# EAGLE library part RJ45_PULSE (library kwoo)
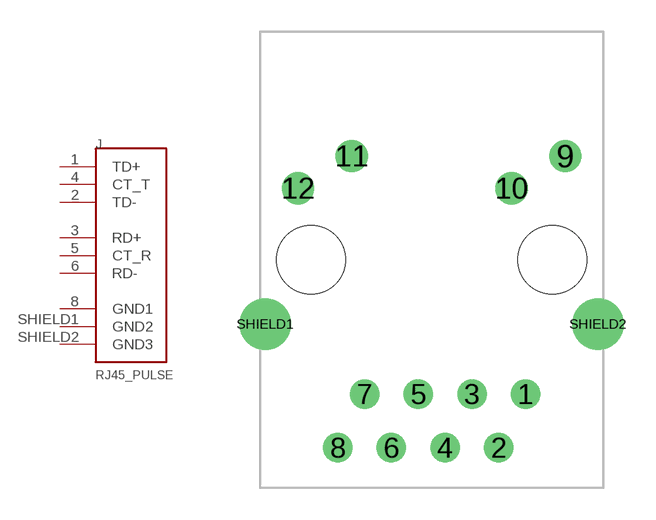
[diagram p30: symbol with the pads of RJ45-PULSE; footprint RJ45-PULSE]

Designator prefix J

## RJ45_PULSE  [RJ45-PULSE]
1  TD+
2  TD-
3  RD+
4  CT_T
5  CT_R
6  RD-
8  GND1
SHIELD1  GND2
SHIELD2  GND3

## Footprint RJ45-PULSE (pad centres in mm)
drill 0.889 round: 1 4.445,-6.35; 2 3.175,-8.89; 3 1.905,-6.35; 4 0.635,-8.89; 5 -0.635,-6.35; 6 -1.905,-8.89; 7 -3.175,-6.35; 8 -4.445,-8.89
drill 1.016 round: 9 6.325,4.902; 10 3.785,3.378; 11 -3.785,4.902; 12 -6.325,3.378
drill 1.626 round: SHIELD1 -7.874,-3.048; SHIELD2 7.874,-3.048
hole 3.251 at 5.715,0
hole 3.251 at -5.715,0